# EAGLE library part 615012149421 (library EagleLibrary_Wuerth_Elektronik_eiCan_Communication_Connectors_v6_20150113)
WR-MJ_Modular Jack_Tab UP_6P6C_Assembly 6P6C Tab UP_Pre-Assembly 1x2 <http://katalog.we-online.de/media/images/eican/Con_WR-MJ_Horizontal_Plastic_6150xx149421_pf2.jpg> Details see: http://katalog.we-online.de/en/em/615_0xx_149_421/615_012_149_421 Created 2014-12-16, Dan Xu 2014 (C) Würth Elektronik
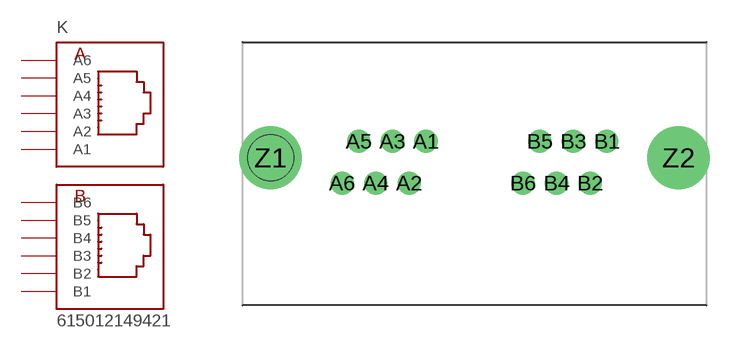
[diagram p159: symbol with the pads of 615012149421; footprint 615012149421]

Designator prefix K

## 615012149421  [615012149421]
A1  A1  pas
A2  A2  pas
A3  A3  pas
A4  A4  pas
A5  A5  pas
A6  A6  pas
B1  B1  pas
B2  B2  pas
B3  B3  pas
B4  B4  pas
B5  B5  pas
B6  B6  pas

## Footprint 615012149421 (pad centres in mm)
WR-MJ_Modular Jack_Tab UP_6P6C_Assembly 6P6C Tab UP_Pre-Assembly 1x2
drill 0.9: A1 -2.95,1; A2 -3.97,-1.54; A3 -4.99,1; A4 -6.01,-1.54; A5 -7.03,1; A6 -8.05,-1.54; B1 8.05,1; B2 7.03,-1.54; B3 6.01,1; B4 4.99,-1.54; B5 3.97,1; B6 2.95,-1.54
drill 2.8: Z1 -12.4,0; Z2 12.4,0
hole 2.8 at -12.4,0